# Altium schematic symbol library D2PAK.SchLib: 1 symbol
Pins are listed as number, name and electrical type; pins without a type are passive.

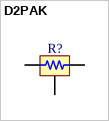
[diagram p0: symbol D2PAK]

## D2PAK
designator R?
300 Ohms ±1% 35W Chip Resistor TO-263-3, D2PAK
pins: 1, 2, 3